# Altium schematic symbol library THD LED lib.SchLib: 2 symbols
Pins are listed as number, name and electrical type; pins without a type are passive.

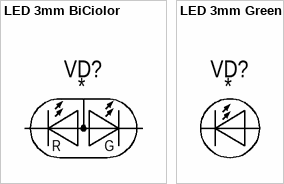
[diagram p0: symbols LED 3mm BiCiolor to LED 3mm Green]

## LED 3mm BiCiolor
designator VD?, comment LED 3mm BiCiolor Red/Green  (value not drawn)
LED 3mm BiColor Red/Green; Manufacture: *; Part Number: *; Model: *
footprint 3mm BiColor LED Common Anode
pins: 1 Red LED Cathode, 2 Common Anode, 3 Green LED Cathode
text: R; G

## LED 3mm Green
designator VD?
LED 3mm Green; Manufacture: *; Part Number: *; Model: *
footprint 3mm LED Green
pins: 1 Anode, 2 Cathode